# Altium footprint library testlib_ntk3.PcbLib: 9 footprints
Each footprint in its own frame and in the unit in brackets; x right, y up, seen from the top. Pads: shape width x height; smd on the part's side, far side on the other; paste and mask are expansions set on the pad; w line width, h text height; cw(c..) or ccw(c..) is an arc to the next point about the centre after c.
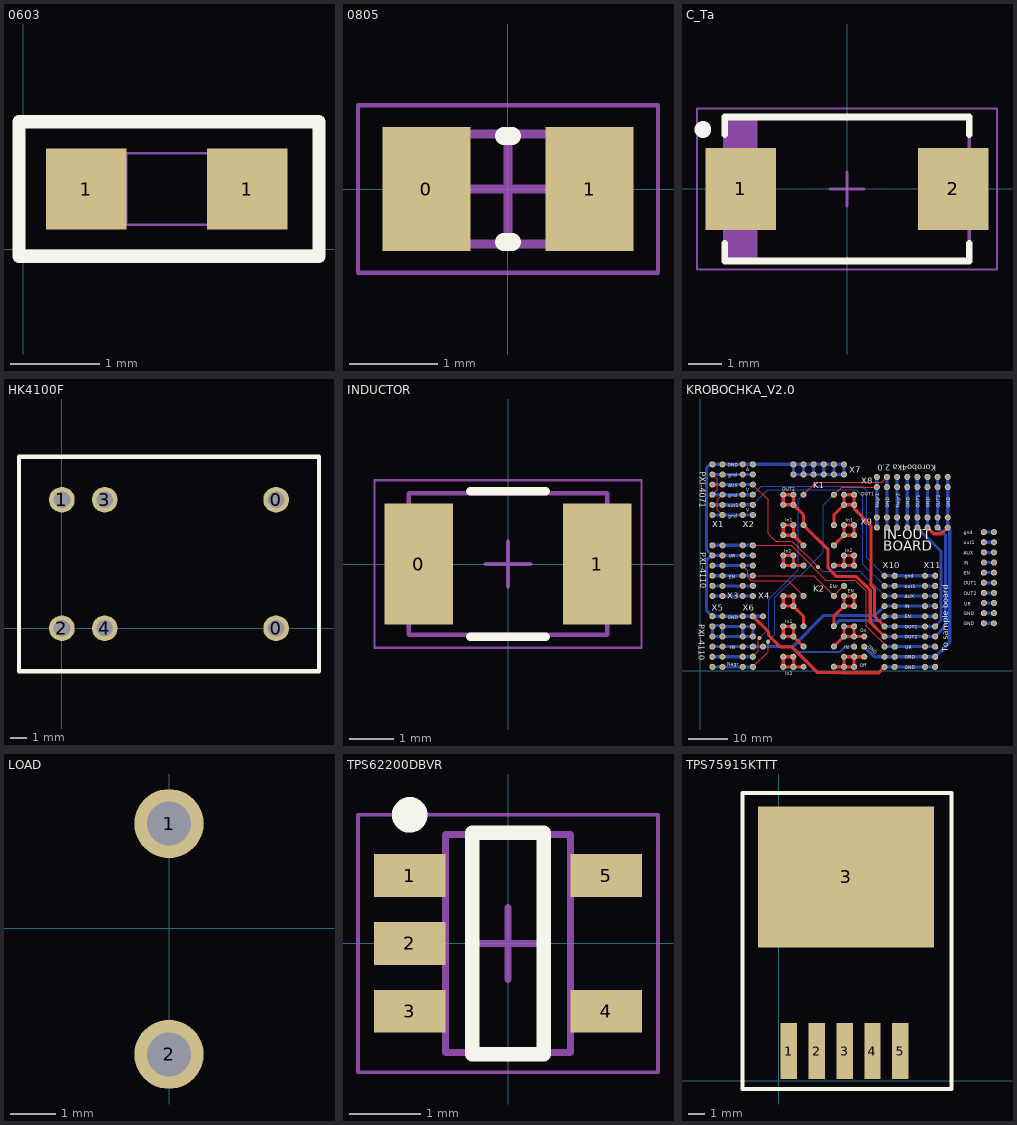
[diagram p0: the footprints below, top view; thin cyan lines are the x and y axes]

## 0603 [mm] "0603 footprint"
pads (2):
  rect 0.9x0.9 smd: 1(0.7,0.675)
  rect 0.9x0.9 smd mask+0.102: 1(2.5,0.675)
Top Overlay:
  lines w0.15: -0.05,-0.075 -0.05,1.425 3.3,1.425 3.3,1.05 3.3,0.3 3.3,-0.075 -0.05,-0.075
Mechanical 1:
  lines w0.025: 0.85,1.075 0.85,0.275 2.45,0.275 2.45,1.075 0.86,1.075 ; 2.16,0.275 2.16,1.075
Mechanical 2:
  lines w0.025: 1.15,0.275 1.15,1.075

## 0805 [mm] "SMD 0805 footprint"
height 0.9
pads (2):
  rect 1x1.4 smd: 0(-0.925,0) 1(0.925,0)
Top Overlay:
  lines w0.2: -0.05,-0.6 0.05,-0.6 ; -0.05,0.6 0.05,0.6
Mechanical 13:
  lines w0.1: -1,-0.625 -1,0.625 1,0.625 1,-0.625 -1,-0.625
Mechanical 15:
  lines w0.05: -1.7,-0.95 -1.7,0.95 1.7,0.95 1.7,-0.95 -1.7,-0.95
  lines w0.1: -0.5,0 0.5,0 ; 0,-0.5 0,0.5
3D body: height 0.9, standoff 0, extent -0.5,-0.625 0.5,0.625
3D body: height 0.9, standoff 0, extent -1,-0.625 -0.5,0.625
3D body: height 0.9, standoff 0, extent 0.5,-0.625 1,0.625

## C_Ta [mm] "tantalum capacitor"
height 2.8
pads (2):
  rect 2.1x2.45 smd: 1(-3.175,0) 2(3.175,0)
Top Overlay:
  circle w0.25: c-4.3,1.775 r0.125
  lines w0.2: -3.65,-1.625 -3.65,-2.15 3.65,-2.15 3.65,-1.625 ; -3.65,1.625 -3.65,2.15 3.65,2.15 3.65,1.625
Mechanical 13:
  rectangle: -3.65,-2.15 -2.668,2.15
  lines w0.1: -3.65,-2.15 -3.65,2.15 3.65,2.15 3.65,-2.15 -3.65,-2.15
Mechanical 15:
  lines w0.05: -4.475,-2.4 -4.475,2.4 4.475,2.4 4.475,-2.4 -4.475,-2.4
  lines w0.1: -0.5,0 0.5,0 ; 0,-0.5 0,0.5
3D body: height 2.8, standoff 0, extent -3.65,-2.15 3.65,2.15

## HK4100F [mil] "5-pin relay"
pads (6):
  round 60 hole 39.37: 0(500,0) 0(500,300) 1(0,300) 2(0,0) 3(100,300) 4(100,0)
Top Overlay:
  lines w10: -100,-100 600,-100 600,400 -100,400 -100,-100

## INDUCTOR [mm] "SMD inductor"
height 3.4
pads (2):
  rect 1.55x2.75 smd: 0(-2.025,0) 1(2.025,0)
Top Overlay:
  lines w0.2: -0.85,-1.65 0.85,-1.65 ; -0.85,1.65 0.85,1.65
Mechanical 13:
  lines w0.1: -2.25,-1.6 2.25,-1.6 2.25,1.6 -2.25,1.6 -2.25,-1.6
Mechanical 15:
  lines w0.05: -3.025,-1.9 3.025,-1.9 3.025,1.9 -3.025,1.9 -3.025,-1.9
  lines w0.1: -0.5,0 0.5,0 ; 0,-0.5 0,0.5
3D body: height 3.4, standoff 0, extent -2.25,-1.6 2.25,1.6

## KROBOCHKA_V2.0 [mil] "pxi chassis connectoin board"
pads (247):
  round 60 hole 38: 0(118.11,39.37) 0(118.11,139.37) 0(118.11,239.37) 0(118.11,339.37) 0(118.11,439.37) 0(118.11,539.37) 0(118.11,739.37) 0(118.11,839.37) 0(118.11,939.37) 0(118.11,1039.37) 0(118.11,1139.37) 0(118.11,1239.37) 0(118.11,1539.37) 0(118.11,1639.37) 0(118.11,1739.37) 0(118.11,1839.37) 0(118.11,1939.37) 0(118.11,2039.37) 0(218.11,39.37) 0(218.11,139.37) 0(218.11,239.37) 0(218.11,339.37) 0(218.11,439.37) 0(218.11,539.37) 0(218.11,739.37) 0(218.11,839.37) 0(218.11,939.37) 0(218.11,1039.37) 0(218.11,1139.37) 0(218.11,1239.37) 0(218.11,1539.37) 0(218.11,1639.37) 0(218.11,1739.37) 0(218.11,1839.37) 0(218.11,1939.37) 0(218.11,2039.37) 0(418.11,39.37) 0(418.11,139.37) 0(418.11,239.37) 0(418.11,339.37) 0(418.11,439.37) 0(418.11,539.37) 0(418.11,739.37) 0(418.11,839.37) 0(418.11,939.37) 0(418.11,1039.37) 0(418.11,1139.37) 0(418.11,1239.37) 0(418.11,1539.37) 0(418.11,1639.37) 0(418.11,1739.37) 0(418.11,1839.37) 0(418.11,1939.37) 0(418.11,2039.37) 0(518.11,39.37) 0(518.11,139.37) 0(518.11,239.37) 0(518.11,339.37) 0(518.11,439.37) 0(518.11,539.37) 0(518.11,739.37) 0(518.11,839.37) 0(518.11,939.37) 0(518.11,1039.37) 0(518.11,1139.37) 0(518.11,1239.37) 0(518.11,1539.37) 0(518.11,1639.37) 0(518.11,1739.37) 0(518.11,1839.37) 0(518.11,1939.37) 0(518.11,2039.37) 0(618.11,239.37) 0(618.11,539.37) 0(818.27,39.41) 0(818.27,139.41) 0(818.27,339.41) 0(818.27,439.41) 0(818.27,639.41) 0(818.27,739.41) 0(818.27,1039.41) 0(818.27,1139.41) 0(818.27,1339.41) 0(818.27,1439.41) 0(818.27,1639.41) 0(818.27,1739.41) 0(918.07,1939.21) 0(918.07,2039.21) 0(918.27,39.41) 0(918.27,139.41) 0(918.27,339.41) 0(918.27,439.41) 0(918.27,639.41) 0(918.27,739.41) 0(918.27,1039.41) 0(918.27,1139.41) 0(918.27,1339.41) 0(918.27,1439.41) 0(918.27,1639.41) 0(918.27,1739.41) 0(1017.91,40.71) 0(1017.91,240.71) 0(1017.91,440.71) 0(1017.91,740.71) 0(1018.07,1939.21) 0(1018.07,2039.21) 0(1018.15,1039.25) 0(1018.15,1239.25) 0(1018.15,1439.25) 0(1018.15,1739.25) 0(1118.07,1939.21) 0(1118.07,2039.21) 0(1218.07,1939.21) 0(1218.07,2039.21) 0(1317.91,40.71) 0(1317.91,240.71) 0(1317.91,440.71) 0(1317.91,740.71) 0(1318.07,1939.21) 0(1318.07,2039.21) 0(1318.15,1039.25) 0(1318.15,1239.25) 0(1318.15,1439.25) 0(1318.15,1739.25) 0(1418.07,1939.21) 0(1418.07,2039.21) 0(1418.27,39.41) 0(1418.27,139.41) 0(1418.27,339.41) 0(1418.27,439.41) 0(1418.27,639.41) 0(1418.27,739.41) 0(1418.27,839.41) 0(1418.27,1039.41) 0(1418.27,1139.41) 0(1418.27,1339.41) 0(1418.27,1439.41) 0(1418.27,1639.41) 0(1418.27,1739.41) 0(1518.27,39.41) 0(1518.27,139.41) 0(1518.27,239.41) 0(1518.27,339.41) 0(1518.27,439.41) 0(1518.27,639.41) 0(1518.27,739.41) 0(1518.27,1039.41) 0(1518.27,1139.41) 0(1518.27,1339.41) 0(1518.27,1439.41) 0(1518.27,1639.41) 0(1518.27,1739.41) 0(1618.27,139.41) 0(1618.27,239.41) 0(1618.27,339.41) 0(1742.28,1414.76) 0(1742.28,1514.76) 0(1742.28,1814.76) 0(1742.28,1914.76) 0(1818.07,39.21) 0(1818.07,139.21) 0(1818.07,239.21) 0(1818.07,339.21) 0(1818.07,439.21) 0(1818.07,539.21) 0(1818.07,639.21) 0(1818.07,739.21) 0(1818.07,839.21) 0(1818.07,939.21) 0(1842.28,1414.76) 0(1842.28,1514.76) 0(1842.28,1814.76) 0(1842.28,1914.76) 0(1918.07,39.21) 0(1918.07,139.21) 0(1918.07,239.21) 0(1918.07,339.21) 0(1918.07,439.21) 0(1918.07,539.21) 0(1918.07,639.21) 0(1918.07,739.21) 0(1918.07,839.21) 0(1918.07,939.21) 0(1942.28,1414.76) 0(1942.28,1514.76) 0(1942.28,1814.76) 0(1942.28,1914.76) 0(2042.28,1414.76) 0(2042.28,1514.76) 0(2042.28,1814.76) 0(2042.28,1914.76) 0(2142.28,1414.76) 0(2142.28,1514.76) 0(2142.28,1814.76) 0(2142.28,1914.76) 0(2218.07,39.21) 0(2218.07,139.21) 0(2218.07,239.21) 0(2218.07,339.21) 0(2218.07,439.21) 0(2218.07,539.21) 0(2218.07,639.21) 0(2218.07,739.21) 0(2218.07,839.21) 0(2218.07,939.21) 0(2242.28,1414.76) 0(2242.28,1514.76) 0(2242.28,1814.76) 0(2242.28,1914.76) 0(2318.07,39.21) 0(2318.07,139.21) 0(2318.07,239.21) 0(2318.07,339.21) 0(2318.07,439.21) 0(2318.07,539.21) 0(2318.07,639.21) 0(2318.07,739.21) 0(2318.07,839.21) 0(2318.07,939.21) 0(2342.28,1414.76) 0(2342.28,1514.76) 0(2342.28,1814.76) 0(2342.28,1914.76) 0(2442.28,1414.76) 0(2442.28,1514.76) 0(2442.28,1814.76) 0(2442.28,1914.76) 1(2798.86,469.84) 1(2798.86,569.84) 1(2898.86,469.84) 1(2898.86,569.84) 2(2798.86,669.84) 2(2898.86,669.84) 3(2798.86,769.84) 3(2898.86,769.84) 4(2798.86,869.84) 4(2898.86,869.84) 5(2798.86,969.84) 5(2898.86,969.84) 6(2798.86,1069.84) 6(2898.86,1069.84) 7(2798.86,1169.84) 7(2898.86,1169.84) 8(2798.86,1269.84) 8(2898.86,1269.84) 9(2798.86,1369.84) 9(2898.86,1369.84)
via 583.78,325.91 diameter 40 hole 18
via 668.46,287.2 diameter 40 hole 18
via 1163.5,1026.22 diameter 40 hole 18
Top Layer:
  lines w11.81: 118.11,1739.37 166.34,1787.6 166.34,1891.14 118.11,1939.37 ; 218.11,1539.37 166.34,1591.14 166.34,1687.6 218.11,1739.37 ; 418.11,1039.37 468.11,989.37 468.11,921.85 498.31,891.65 866.97,891.65 1017.91,740.71 ; 518.11,39.37 668.46,189.72 668.46,287.2 ; 518.11,139.37 570.39,191.65 570.39,312.52 583.78,325.91 ; 518.11,939.37 1119.25,939.37 1317.91,740.71 1416.61,839.41 1418.27,839.41 ; 518.11,1239.37 518.62,1238.86 899.57,1238.86 1125.79,1012.64 1125.79,1010.59 1239.68,896.69 1527.68,896.69 1640.12,784.25 1640.12,439.25 1818.07,261.3 1818.07,239.21 ; 518.11,1839.37 668.98,1688.5 668.98,1354.53 743.11,1280.39 909.33,1280.39 1163.5,1026.22 ; 1018.15,1739.25 1143.7,1864.8 1788.74,1864.8 1838.7,1914.76 1842.28,1914.76 ; 1317.91,240.71 1338.7,240.71 ; 1318.15,1739.25 1393.66,1814.76 1742.28,1814.76
  lines w31.5: 518.11,539.37 672.64,384.84 672.64,353.39 791.73,234.29 904.8,234.29 1040.83,98.27 1041.77,98.27 1156.97,-16.93 1393.19,-16.93 1394.41,-18.15 1760.71,-18.15 1818.07,39.21 ; 1017.91,40.71 1016.61,39.41 918.27,39.41 ; 1017.91,240.71 1016.97,240.71 918.27,339.41 ; 1017.91,440.71 1017.91,539.76 918.27,639.41 ; 1018.15,1039.25 1017.99,1039.41 918.27,1039.41 ; 1018.15,1239.25 1018.15,1239.53 918.27,1339.41 ; 1317.91,40.71 1416.97,40.71 1418.27,39.41 ; 1317.91,240.71 1416.61,339.41 1418.27,339.41 ; 1317.91,440.71 1317.91,539.06 1418.27,639.41 ; 1318.15,1039.25 1318.31,1039.41 1418.27,1039.41 ; 1318.15,1239.25 1318.15,1239.29 1418.27,1339.41 ; 1318.15,1439.25 1318.15,1539.29 1418.27,1639.41 ; 1618.27,139.41 1518.27,139.41 ; 1618.27,339.41 1518.27,339.41 ; 1818.07,339.21 1677.05,480.24 1677.05,794.69 1541.57,930.16 1345.83,930.16 1260.59,1015.39 1260.59,1196.81 1018.15,1439.25 1018.15,1539.53 918.27,1639.41 ; 1818.07,439.21 1720.35,536.93 1720.35,812.64 1683.9,849.09 1683.9,1434.02 1523.74,1594.17 1523.74,1633.94 1518.27,1639.41 ; 2242.28,1414.76 2303.7,1353.35 2380.87,1353.35 2442.28,1414.76 ; 918.27,39.41 818.27,39.41 818.27,139.41 918.27,139.41 918.27,39.41 ; 918.27,339.41 818.27,339.41 818.27,439.41 918.27,439.41 918.27,339.41 ; 918.27,639.41 818.27,639.41 818.27,739.41 918.27,739.41 918.27,639.41 ; 918.27,1039.41 818.27,1039.41 818.27,1139.41 918.27,1139.41 918.27,1039.41 ; 918.27,1339.41 818.27,1339.41 818.27,1439.41 918.27,1439.41 918.27,1339.41 ; 918.27,1639.41 818.27,1639.41 818.27,1739.41 918.27,1739.41 918.27,1639.41 ; 1418.27,39.41 1418.27,139.41 1518.27,139.41 ; 1418.27,39.41 1518.27,39.41 1518.27,139.41 ; 1418.27,339.41 1418.27,439.41 1518.27,439.41 1518.27,339.41 ; 1418.27,339.41 1518.27,339.41 ; 1418.27,639.41 1418.27,739.41 1518.27,739.41 1518.27,639.41 1418.27,639.41 ; 1418.27,1039.41 1418.27,1139.41 1518.27,1139.41 1518.27,1039.41 1418.27,1039.41 ; 1418.27,1339.41 1418.27,1439.41 1518.27,1439.41 1518.27,1339.41 1418.27,1339.41 ; 1418.27,1639.41 1418.27,1739.41 1518.27,1739.41 1518.27,1639.41 ; 1418.27,1639.41 1518.27,1639.41
Bottom Layer:
  lines w11.81: 518.11,1639.37 665.87,1787.13 1538.07,1787.13 1602.4,1722.8 1602.4,1054.88 1818.07,839.21 ; 518.11,1739.37 599.53,1820.79 1597.32,1820.79 1640.87,1777.24 1640.87,1116.42 1818.07,939.21 1818.07,945.08 ; 583.78,325.91 586.18,328.31 ; 668.46,287.2 736.18,354.92 736.18,724.84 949.21,937.87 984.29,937.87 1215.12,1168.7 1215.12,1636.22 1318.15,1739.25 ; 913.07,1934.21 918.07,1939.21 ; 1018.15,1739.25 968.39,1689.49 968.39,1000.75 673.31,705.67 673.31,415.39 586.22,328.31 ; 1163.5,1026.22 1205.04,984.69 1572.6,984.69 1818.07,739.21 ; 586.18,328.31 586.22,328.31
  lines w19.68: 618.11,239.37 913.86,239.37 967.8,185.43 1373.39,185.43 1427.36,239.41 1518.27,239.41
  lines w31.5: 118.11,39.37 218.11,39.37 418.11,39.37 518.11,39.37 ; 118.11,139.37 218.11,139.37 418.11,139.37 518.11,139.37 ; 118.11,239.37 218.11,239.37 418.11,239.37 518.11,239.37 618.11,239.37 911.57,239.37 1219.37,547.17 1726.02,547.17 1818.07,639.21 1918.07,639.21 2218.07,639.21 2318.07,639.21 ; 118.11,739.37 218.11,739.37 418.11,739.37 518.11,739.37 ; 118.11,839.37 218.11,839.37 418.11,839.37 518.11,839.37 ; 118.11,939.37 218.11,939.37 418.11,939.37 518.11,939.37 ; 118.11,1039.37 218.11,1039.37 418.11,1039.37 518.11,1039.37 ; 118.11,1239.37 218.11,1239.37 418.11,1239.37 518.11,1239.37 ; 118.11,1539.37 218.11,1539.37 418.11,1539.37 518.11,1539.37 ; 118.11,1639.37 218.11,1639.37 418.11,1639.37 518.11,1639.37 ; 118.11,1739.37 218.11,1739.37 418.11,1739.37 518.11,1739.37 ; 118.11,1839.37 218.11,1839.37 418.11,1839.37 518.11,1839.37 ; 118.11,1939.37 218.11,1939.37 418.11,1939.37 518.11,1939.37 ; 522.36,1143.62 518.11,1139.37 418.11,1139.37 218.11,1139.37 118.11,1139.37 ; 618.11,539.37 518.11,539.37 418.11,539.37 218.11,539.37 118.11,539.37 59.17,598.31 59.17,1092.64 105.91,1139.37 118.11,1139.37 ; 1317.91,440.71 1375.51,498.31 1777.17,498.31 1818.07,539.21 1918.07,539.21 2218.07,539.21 2318.07,539.21 ; 1618.27,239.41 1718.46,139.21 1818.07,139.21 1918.07,139.21 2218.07,139.21 2318.07,139.21 2462.24,283.39 2462.24,1394.8 2442.28,1414.76 2442.28,1514.76 2442.28,1814.76 2442.28,1914.76 ; 1742.28,1414.76 1742.28,1514.76 1742.28,1814.76 1742.28,1914.76 ; 1802.83,339.21 1818.07,339.21 1918.07,339.21 2218.07,339.21 2318.07,339.21 2418.94,440.08 2418.94,1338.11 2342.28,1414.76 2342.28,1514.76 2342.28,1814.76 2342.28,1914.76 ; 1818.07,39.21 1918.07,39.21 2218.07,39.21 2318.07,39.21 ; 1818.07,239.21 1918.07,239.21 2218.07,239.21 2318.07,239.21 ; 1818.07,439.21 1918.07,439.21 2218.07,439.21 2318.07,439.21 ; 1818.07,739.21 1918.07,739.21 2218.07,739.21 2318.07,739.21 ; 1818.07,839.21 1918.07,839.21 2218.07,839.21 2318.07,839.21 ; 1818.07,939.21 1918.07,939.21 2218.07,939.21 2318.07,939.21 ; 1842.28,1414.76 1842.28,1514.76 1842.28,1814.76 1842.28,1914.76 ; 1942.28,1414.76 1942.28,1514.76 1942.28,1814.76 1942.28,1914.76 ; 2042.28,1414.76 2042.28,1514.76 2042.28,1814.76 2042.28,1914.76 ; 2142.28,1914.76 2142.28,1814.76 2142.28,1514.76 2142.28,1414.76 2375.63,1181.42 2375.63,496.77 2318.07,439.21 ; 2242.28,1414.76 2242.28,1514.76 2242.28,1814.76 2242.28,1914.76 ; 2321.61,439.21 2318.07,439.21 ; 2798.86,469.84 2898.86,469.84 ; 2798.86,569.84 2898.86,569.84 ; 2798.86,669.84 2898.86,669.84 ; 2798.86,769.84 2898.86,769.84 ; 2798.86,869.84 2898.86,869.84 ; 2798.86,969.84 2898.86,969.84 ; 2798.86,1069.84 2898.86,1069.84 ; 2798.86,1169.84 2898.86,1169.84 ; 2798.86,1269.84 2898.86,1269.84 ; 2798.86,1369.84 2898.86,1369.84 ; 118.11,1139.37 59.17,1198.31 59.17,1999.53 99.02,2039.37 118.11,2039.37 218.11,2039.37 418.11,2039.37 518.11,2039.37 917.91,2039.37 918.07,2039.21 ; 218.11,339.37 118.11,339.37 118.11,439.37 120.63,439.37 127.72,446.46 211.02,446.46 218.11,439.37 ; 218.11,339.37 218.11,439.37 ; 218.11,339.37 418.11,339.37 ; 218.11,439.37 418.11,439.37 ; 418.11,339.37 518.11,339.37 518.11,439.37 418.11,439.37 ; 418.11,339.37 418.11,439.37 ; 918.07,2031.97 918.07,2039.21 ; 918.07,2031.97 911.89,2025.79 911.89,2033.03 918.07,2039.21 ; 918.07,2031.97 918.07,1939.21 1018.07,1939.21 ; 918.07,2039.21 1018.07,2039.21 ; 1018.07,1939.21 1018.07,2039.21 ; 1018.07,1939.21 1118.07,1939.21 ; 1018.07,2039.21 1118.07,2039.21 ; 1118.07,1939.21 1118.07,2039.21 ; 1118.07,1939.21 1218.07,1939.21 ; 1118.07,2039.21 1218.07,2039.21 ; 1218.07,1939.21 1318.07,1939.21 ; 1218.07,1939.21 1218.07,2039.21 ; 1218.07,2039.21 1318.07,2039.21 ; 1318.07,1939.21 1318.07,2039.21 ; 1318.07,1939.21 1418.07,1939.21 1418.07,2039.21 1388.62,2039.21 1318.07,2039.21
Top Overlay:
  text "X11" at 2204.37,1013.15 h60
  text "X10" at 1798.86,1013.15 h60
  text "X9" at 1582.32,1442.28 h60
  text "X8" at 1586.26,1847.8 h60
  text "X7" at 1468.15,1958.03 h60
  text "X6" at 416.97,595.83 h60
  text "X5" at 109.88,595.83 h60
  text "X4" at 570.51,710 h60
  text "X3" at 263.43,710 h60
  text "X2" at 416.97,1418.66 h60
  text "X1" at 117.76,1418.66 h60
  text "OUT1" at 2598.86,848.15 h31.25
  text "GND" at 2598.86,548.15 h31.25
  text "out1" at 2598.86,1248.15 h31.25
  text "OUT2" at 2598.86,748.15 h31.25
  text "GND" at 2598.86,448.15 h31.25
  text "AUX" at 2598.86,1148.15 h31.25
  text "gnd" at 2598.86,1348.15 h31.25
  text "EN" at 2598.86,948.15 h31.25
  text "IN" at 2598.86,1048.15 h31.25
  text "UR" at 2603.82,644.45 h31.25
  text "PXI-4110" at -33.46,457.87 h97.22
  text "V" at 455,1556.22 h55.56
  text "V" at 450.47,1751.46 h55.56
  text "A" at 452.72,1958.03 h55.56
  text "In2" at 836.57,-43.35 h31.25
  text "In2" at 826.18,1168.43 h31.25
  text "In1" at 836.57,1471.06 h31.25
  text "IN" at 1422.8,212.72 h31.25
  text "ENr" at 1278.15,815.16 h31.25
  text "In2" at 1430.12,1172.32 h31.25
  text "In1" at 1434.02,1471.06 h31.25
  text "Off" at 1574.84,37.05 h31.25
  text "GND" at 1653.62,231.57 h31.25
  text "OUT1" at 1587.28,1726.93 h31.25
  text "UR" at 2023.03,213.82 h31.25
  text "IN" at 2018.07,617.52 h31.25
  text "EN" at 2018.07,517.52 h31.25
  text "gnd" at 2018.07,917.52 h31.25
  text "On" at 1576.14,379.88 h31.25
  text "Nagr1" at 1766.18,1608.35 h31.25
  text "AUX" at 2018.07,717.52 h31.25
  text "GND" at 2066.18,1608.35 h31.25
  text "Nagr2" at 1966.18,1608.35 h31.25
  text "OUT2" at 2366.18,1608.35 h31.25
  text "GND" at 2266.18,1608.35 h31.25
  text "Nagr" at 264.69,49.84 h31.25
  text "IN" at 292.68,214.61 h31.25
  text "GND" at 270,510.87 h31.25
  text "EN" at 282.48,909.25 h31.25
  text "UR" at 280.2,1114.72 h31.25
  text "gnd" at 274.53,1513.11 h31.25
  text "gnd" at 274.53,1715.16 h31.25
  text "AUX" at 276.81,1815.04 h31.25
  text "GND" at 269.57,2014.88 h31.25
  text "In1" at 839.17,469.69 h31.25
  text "EN" at 1456.1,773.58 h31.25
  text "OUT2" at 810.59,1777.6 h31.25
  text "GND" at 2018.07,17.52 h31.25
  text "OUT2" at 2018.07,317.52 h31.25
  text "out1" at 2018.07,817.52 h31.25
  text "PXI-4110" at -22.83,1172.6 h97.22
  text "PXI-4071" at -27.4,1965.98 h97.22
  text "out1" at 268.86,1617.52 h31.25
  text "gnd" at 276.38,1918.58 h31.25
  text "GND" at 1866.18,1608.35 h31.25
  text "GND" at 2018.07,117.52 h31.25
  text "OUT1" at 2018.07,417.52 h31.25
  text "OUT1" at 2166.18,1608.35 h31.25
  text "GND" at 2466.18,1608.35 h31.25
  text "Korobo4ka 2.0" at 2330.94,2056.34 h97.22
  text "IN-OUT" at 1806.26,1264.93 h166.67
  text "BOARD" at 1806.73,1150.94 h166.67
  text "To sample board" at 2468.15,182.44 h97.22
  text "K1" at 1113.82,1804.49 h60
  text "K2" at 1113.82,780.87 h60

## LOAD [mil]
pads (2):
  round 60 hole 38: 1(0,90.55) 2(0,-109.25)

## TPS62200DBVR [mm] "dc-dc step down converter, sot23, 5 pin"
height 1.45
pads (5):
  rect 1x0.6 smd: 1(-1.375,0.95) 2(-1.375,0) 3(-1.375,-0.95) 4(1.375,-0.95) 5(1.375,0.95)
Top Overlay:
  circle w0.25: c-1.375,1.8 r0.125
  lines w0.2: -0.5,-1.55 0.5,-1.55 0.5,1.55 -0.5,1.55 -0.5,-1.55
Mechanical 13:
  lines w0.1: -0.875,-1.525 -0.875,1.525 0.875,1.525 0.875,-1.525 -0.875,-1.525
Mechanical 15:
  lines w0.05: -2.1,-1.8 -2.1,1.8 2.1,1.8 2.1,-1.8 -2.1,-1.8
  lines w0.1: -0.5,0 0.5,0 ; 0,-0.5 0,0.5
3D body: height 1.45, standoff 0.15, extent -0.875,-1.525 0.875,1.525

## TPS75915KTTT [mm]
pads (6):
  rect 1x3.4 smd: 1(0.6,1.8) 2(2.3,1.8) 3(4,1.8) 4(5.7,1.8) 5(7.4,1.8)
  rect 10.7x8.6 smd: 3(4.1,12.4)
Top Overlay:
  lines w0.254: -2.2,-0.5 10.5,-0.5 10.5,0 10.5,17.5 -2.2,17.5 -2.2,-0.5